# EAGLE library part M24C01 (library chips)
1K I2C™ Serial EEPROM
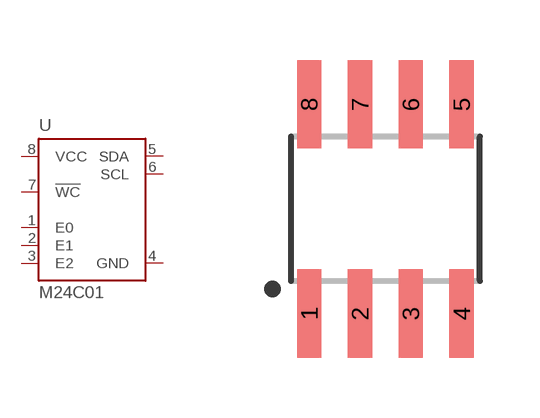
[diagram p76: symbol with the pads of SOIC-8; footprint SOIC-8]

Designator prefix U

## M24C01WMN (DIGIKEY: 497-8631-1-ND)  [SOIC-8]
1  E0
2  E1
3  E2
4  GND
5  SDA
6  SCL
7  !WC
8  VCC

## Footprint SOIC-8 (pad centres in mm)
smd 0.61 x 2.21: 1 -1.905,-2.616; 2 -0.635,-2.616; 3 0.635,-2.616; 4 1.905,-2.616; 5 1.905,2.616; 6 0.635,2.616; 7 -0.635,2.616; 8 -1.905,2.616